# EAGLE library part 74HC4094 (library 74hc4094)
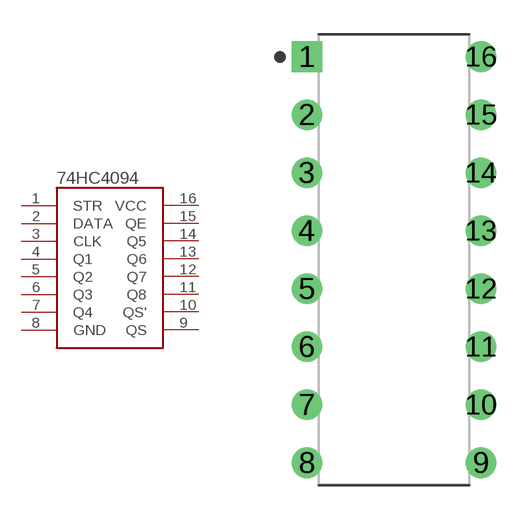
[diagram p0: symbol with the pads of DIP762W53P254L1969H508Q16B; footprint DIP762W53P254L1969H508Q16B]

Designator prefix U

## 74HC4094  [DIP762W53P254L1969H508Q16B]
1  STR
2  DATA
3  CLK
4  Q1
5  Q2
6  Q3
7  Q4
8  GND
9  QS
10  QS'
11  Q8
12  Q7
13  Q6
14  Q5
15  QE
16  VCC

## Footprint DIP762W53P254L1969H508Q16B (pad centres in mm)
16-DIP, 2.54 mm (0.10 in) pitch, 7.62 mm (0.30 in) span, 19.69 X 6.60 X 5.08 mm body 16-pin DIP package with 2.54 mm (0.10 in) pitch, 7.62 mm (0.30 in) span with body size 19.69 X 6.60 X 5.08 mm
drill 0.743 pad 1.343 square: 1 -3.81,8.89
drill 0.743 pad 1.343: 2 -3.81,6.35; 3 -3.81,3.81; 4 -3.81,1.27; 5 -3.81,-1.27; 6 -3.81,-3.81; 7 -3.81,-6.35; 8 -3.81,-8.89; 9 3.81,-8.89; 10 3.81,-6.35; 11 3.81,-3.81; 12 3.81,-1.27; 13 3.81,1.27; 14 3.81,3.81; 15 3.81,6.35; 16 3.81,8.89